# Altium footprint library PcbLib_Internship.PcbLib: 19 footprints (part 1 of 2)
Each footprint in its own frame and in the unit in brackets; x right, y up, seen from the top. Pads: shape width x height; smd on the part's side, far side on the other; paste and mask are expansions set on the pad; w line width, h text height; cw(c..) or ccw(c..) is an arc to the next point about the centre after c.
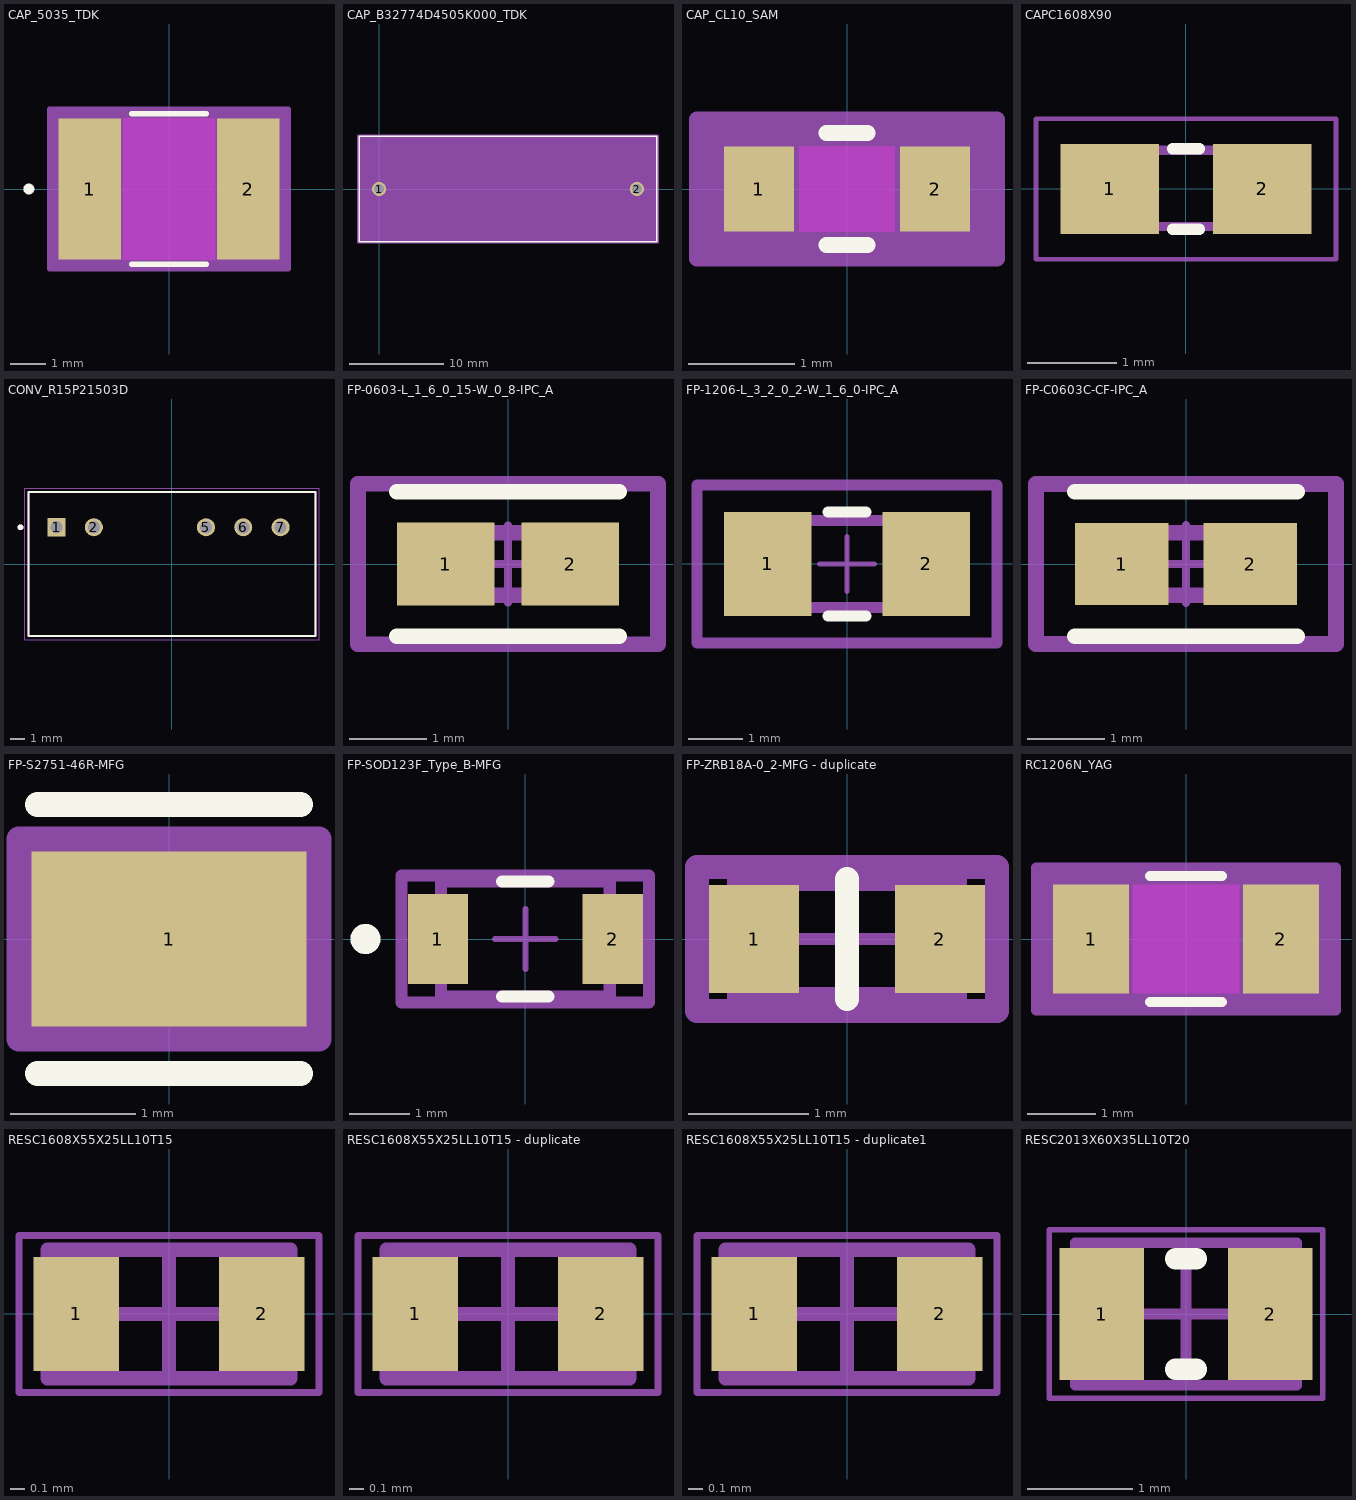
[diagram p0: the footprints below, top view; thin cyan lines are the x and y axes]

## CAP_5035_TDK [mil]
pads (2):
  rect 69x157 smd paste+0 mask+0: 1(-88,0) 2(88,0)
Top Layer keep-out:
  region: -51.5,-76.5 -51.5,76.5 51.5,76.5 51.5,-76.5
Top Overlay:
  circle w6: c-155.5,0 r3
  lines w6: -41.39,-83.5 41.39,-83.5 ; -41.39,83.5 41.39,83.5
Keep-Out Layer:
  region: -51.5,-78.5 -51.5,78.5 51.5,78.5 51.5,-78.5
Mechanical 13:
  circle w0: c-83,0 r3
  lines w1: -108.5,-78.5 -108.5,78.5 ; -108.5,-78.5 -53.5,-78.5 -53.5,78.5 -108.5,78.5 ; -108.5,-78.5 108.5,-78.5 ; -108.5,-78.5 -108.5,78.5 ; -108.5,78.5 108.5,78.5 ; 108.5,-78.5 53.5,-78.5 53.5,78.5 108.5,78.5 ; 108.5,-78.5 108.5,78.5 ; 108.5,-78.5 108.5,78.5
Mechanical 15:
  region: 132.5,-88.5 -132.5,-88.5 -132.5,88.5 132.5,88.5
  lines w6: -132.5,-88.5 -132.5,88.5 132.5,88.5 132.5,-88.5 -132.5,-88.5
3D body "CAP_5035_TDK.step": height 132.01, standoff 0, extent -108.5,-78.5 108.5,78.5

## CAP_B32774D4505K000_TDK [mil]
pads (2):
  round 60 / inner round 60 / far side rect 63x63 hole 43 paste-31.5 mask+0: 1(0,0)
  round 60 / inner round 60 / far side round 63 hole 43 paste-31.5 mask+0: 2(1082.68,0)
Top Overlay:
  lines w6: -83.66,-221.5 1166.34,-221.5 1166.34,221.5 -83.66,221.5 -83.66,-221.5
Mechanical 13:
  lines w1: -78.66,-216.5 1161.34,-216.5 1161.34,216.5 -78.66,216.5 -78.66,-216.5
Mechanical 15:
  region: 1171.34,-226.5 -88.66,-226.5 -88.66,226.5 1171.34,226.5
  lines w6: -88.66,-226.5 -88.66,226.5 1171.34,226.5 1171.34,-226.5 -88.66,-226.5
3D body "CAP_B32774D4505K000_TDK.step": height 827.01, standoff -199.02, extent -78.66,-216.5 1161.34,216.5

## CAP_CL10_SAM [mm]
pads (2):
  rect 0.656x0.8 smd paste+0 mask+0: 1(-0.828,0) 2(0.828,0)
Top Layer keep-out:
  region: -0.449,-0.349 -0.449,0.349 0.449,0.349 0.449,-0.349
Top Overlay:
  lines w0.152: -0.192,-0.527 0.192,-0.527 ; -0.192,0.527 0.192,0.527
Keep-Out Layer:
  region: -0.449,-0.4 -0.449,0.4 0.449,0.4 0.449,-0.4
Mechanical 13:
  lines w0.025: -0.8,-0.4 -0.8,0.4 ; -0.8,-0.4 -0.5,-0.4 -0.5,0.4 -0.8,0.4 ; -0.8,-0.4 0.8,-0.4 ; -0.8,-0.4 -0.8,0.4 ; -0.8,0.4 0.8,0.4 ; 0.8,-0.4 0.5,-0.4 0.5,0.4 0.8,0.4 ; 0.8,-0.4 0.8,0.4 ; 0.8,-0.4 0.8,0.4
Mechanical 15:
  region: 1.41,-0.654 -1.41,-0.654 -1.41,0.654 1.41,0.654
  lines w0.152: -1.41,-0.654 -1.41,0.654 1.41,0.654 1.41,-0.654 -1.41,-0.654
3D body "CAP_CL10_SAM.step": height 0.9, standoff 0, extent -0.8,-0.4 0.8,0.4

## CAPC1608X90 [mm]
pads (2):
  rect 1.1x1 smd: 1(-0.85,0) 2(0.85,0)
Top Overlay:
  lines w0.127: -0.15,-0.45 0.15,-0.45 ; -0.15,0.45 0.15,0.45
Mechanical 13:
  region: 0.83,-0.471 0.331,-0.471 0.331,0.48 0.83,0.48
  region: -0.338,-0.47 -0.839,-0.47 -0.839,0.48 -0.338,0.48
  lines w0.102: -0.356,-0.419 0.356,-0.419 ; -0.356,0.432 0.356,0.432
Mechanical 15:
  lines w0.051: -1.673,-0.783 -1.673,0.783 1.673,0.783 1.673,-0.783 -1.673,-0.783
3D body "CAP_CL10_SAM.step": height 0.9, standoff 0, extent -0.8,-0.4 0.8,0.4

## CONV_R15P21503D [mm]
pads (5):
  rect 1.23x1.23 hole 0.82: 1(-7.85,2.5)
  round 1.23 hole 0.82: 2(-5.31,2.5) 5(2.31,2.5) 6(4.85,2.5) 7(7.39,2.5)
Top Overlay:
  circle w0.2: c-10.3,2.5 r0.1
  lines w0.127: -9.75,-4.9 -9.75,4.9 9.75,4.9 9.75,-4.9 -9.75,-4.9
Mechanical 13:
  circle w0.2: c-10.3,2.5 r0.1
  lines w0.127: -9.75,-4.9 9.75,-4.9 9.75,4.9 -9.75,4.9 -9.75,-4.9
Mechanical 15:
  lines w0.05: -10,-5.15 -10,5.15 10,5.15 10,-5.15 -10,-5.15
3D body "R15P21503D.STEP": height 12.01, standoff -4.59, extent -9.75,-4.9 9.75,4.9

## FP-0603-L_1_6_0_15-W_0_8-IPC_A [mm]
pads (2):
  rect 1.258x1.062 smd paste+0 mask+0: 1(-0.802,0) 2(0.802,0)
Top Overlay:
  lines w0.2: -1.431,-0.931 1.431,-0.931 ; -1.431,0.931 1.431,0.931
Top 3D Body:
  lines w0.2: -0.8,-0.4 0.8,-0.4 0.8,0.4 -0.8,0.4 -0.8,-0.4
Top Courtyard:
  lines w0.2: -1.931,-1.031 1.931,-1.031 1.931,1.031 -1.931,1.031 -1.931,-1.031
Top Assembly:
  lines w0.2: -1.931,-1.031 1.931,-1.031 1.931,1.031 -1.931,1.031 -1.931,-1.031
  text ".Designator" at 0,0.188 h1
Top Component Center:
  lines w0.1: -0.5,0 0.5,0 ; 0,-0.5 0,0.5
3D body "Cap_Taiyo_Yuden_EMK107ABJ475KA-T_eec.STEP": height 0.25, standoff 0, extent -1.931,-1.031 1.931,1.031

## FP-1206-L_3_2_0_2-W_1_6_0-IPC_A [mm]
pads (2):
  rect 1.604x1.906 smd paste+0 mask+0: 1(-1.451,0) 2(1.451,0)
Top Overlay:
  lines w0.2: -0.349,-0.953 0.349,-0.953 ; -0.349,0.953 0.349,0.953
Top 3D Body:
  lines w0.2: -1.6,-0.8 1.6,-0.8 1.6,0.8 -1.6,0.8 -1.6,-0.8
Top Courtyard:
  lines w0.2: -2.753,-1.453 2.753,-1.453 2.753,1.453 -2.753,1.453 -2.753,-1.453
Top Assembly:
  lines w0.2: -2.753,-1.453 2.753,-1.453 2.753,1.453 -2.753,1.453 -2.753,-1.453
  text ".Designator" at 0,0.188 h1
Top Component Center:
  lines w0.1: -0.5,0 0.5,0 ; 0,-0.5 0,0.5
3D body "Cap_Taiyo_Yuden_JMK316ABJ226KLHT_eec.STEP": height 0.25, standoff 0, extent -2.753,-1.453 2.753,1.453

## FP-C0603C-CF-IPC_A [mil]
pads (2):
  rect 47.5x41.66 smd paste+0 mask+0: 1(-32.51,0) 2(32.51,0)
Top Overlay:
  lines w7.87: -56.26,-36.58 56.26,-36.58 ; -56.26,36.58 56.26,36.58
Top 3D Body:
  lines w7.87: -31.5,-15.75 31.5,-15.75 31.5,15.75 -31.5,15.75 -31.5,-15.75
Top Courtyard:
  lines w7.87: -75.95,-40.52 75.95,-40.52 75.95,40.52 -75.95,40.52 -75.95,-40.52
Top Assembly:
  lines w7.87: -75.95,-40.52 75.95,-40.52 75.95,40.52 -75.95,40.52 -75.95,-40.52
  text ".Designator" at 0,7.39 h39.37
Top Component Center:
  lines w3.94: -19.68,0 19.68,0 ; 0,-19.68 0,19.68
3D body "Cap_KEMET_C0603C272M5JACTU_eec.STEP": height 10, standoff 0, extent -75.95,-40.52 75.95,40.52

## FP-S2751-46R-MFG [mm]
pads (1):
  rect 2.2x1.4 smd paste+0 mask+0: 1(0,0)
Top Overlay:
  lines w0.2: -1.05,-1.075 1.05,-1.075 ; -1.05,1.075 1.05,1.075
Top 3D Body:
  lines w0.2: -1.05,-0.65 -1.05,0.65 1.05,0.65 1.05,-0.65 -1.05,-0.65
Top Courtyard:
  lines w0.2: -1.2,-0.8 -1.2,0.8 1.2,0.8 1.2,-0.8 -1.2,-0.8
Top Assembly:
  lines w0.2: -1.2,-0.8 -1.2,0.8 1.2,0.8 1.2,-0.8 -1.2,-0.8
  text ".Designator" at 0,-0.001 h1
Top Component Center:
  lines w0.1: -0.5,0 0.5,0 ; 0,-0.5 0,0.5
3D body "Conn_Harwin_S2751-46R_eec.STEP": height 0.25, standoff 0, extent -1.2,-0.8 1.2,0.8

## FP-SOD123F_Type_B-MFG [mm]
pads (2):
  rect 1x1.5 smd paste+0 mask+0: 1(-1.45,0) 2(1.45,0)
Top Overlay:
  circle w0.25: c-2.65,0 r0.125
  lines w0.2: -0.385,-0.95 0.385,-0.95 ; -0.385,0.95 0.385,0.95
Top 3D Body:
  lines w0.2: -1.4,-0.95 1.4,-0.95 1.4,0.95 -1.4,0.95 -1.4,-0.95
Top Courtyard:
  lines w0.2: -2.05,-1.05 2.05,-1.05 2.05,1.05 -2.05,1.05 -2.05,-1.05
Top Assembly:
  lines w0.2: -2.05,-1.05 2.05,-1.05 2.05,1.05 -2.05,1.05 -2.05,-1.05
  text ".Designator" at 0,-0.001 h1
Top Component Center:
  lines w0.1: -0.5,0 0.5,0 ; 0,-0.5 0,0.5
3D body "Diode_Diodes_Inc_1N5819HW1-7-F_eec.STEP": height 0.25, standoff 0, extent -2.05,-1.05 2.05,1.05

## FP-ZRB18A-0_2-MFG - duplicate [mm]
pads (2):
  rect 0.75x0.9 smd paste+0 mask+0: 1(-0.775,0) 2(0.775,0)
Top Overlay:
  lines w0.2: 0,-0.5 0,0.5
Top 3D Body:
  lines w0.2: -0.9,-0.5 0.9,-0.5 0.9,0.5 -0.9,0.5 -0.9,-0.5
Top Courtyard:
  lines w0.2: -1.25,-0.6 1.25,-0.6 1.25,0.6 -1.25,0.6 -1.25,-0.6
Top Assembly:
  lines w0.2: -1.25,-0.6 1.25,-0.6 1.25,0.6 -1.25,0.6 -1.25,-0.6
  text ".Designator" at 0,-0.001 h1
Top Component Center:
  lines w0.1: -0.5,0 0.5,0 ; 0,-0.5 0,0.5
3D body "Cap_Murata_Electronics_ZRB18AR61A226ME01L_eec.STEP": height 0.25, standoff 0, extent -1.25,-0.6 1.25,0.6

## RC1206N_YAG [mil]
pads (2):
  rect 44x63 smd paste+0 mask+0: 1(-55,0) 2(55,0)
Top Layer keep-out:
  region: -31,-29.5 -31,29.5 31,29.5 31,-29.5
Top Overlay:
  lines w6: -20.89,-36.5 20.89,-36.5 ; -20.89,36.5 20.89,36.5
Keep-Out Layer:
  region: -31,-31.5 -31,31.5 31,31.5 31,-31.5
Mechanical 13:
  lines w1: -63,-31.5 -63,31.5 ; -63,-31.5 63,-31.5 ; -63,-31.5 -33,-31.5 -33,31.5 -63,31.5 ; -63,-31.5 -63,31.5 ; -63,31.5 63,31.5 ; 63,-31.5 63,31.5 ; 63,-31.5 63,31.5 ; 63,-31.5 33,-31.5 33,31.5 63,31.5
Mechanical 15:
  region: 87,-41.5 -87,-41.5 -87,41.5 87,41.5
  lines w6: -87,-41.5 87,-41.5 87,41.5 -87,41.5 -87,-41.5
3D body "RC1206N_YAG.step": height 27.99, standoff 0, extent -62.99,-31.5 62.99,31.5

## RESC1608X55X25LL10T15 [mm] "Chip Resistor, 2-Leads, Body 1.70x0.90mm, IPC High Density"
height 0.55
pads (2):
  rect 0.6x0.8 smd: 1(-0.65,0) 2(0.65,0)
Mechanical 13:
  lines w0.1: -0.85,-0.45 -0.85,0.45 0.85,0.45 0.85,-0.45 -0.85,-0.45
Mechanical 15:
  lines w0.05: -1.05,-0.55 -1.05,0.55 1.05,0.55 1.05,-0.55 -1.05,-0.55
  lines w0.1: -0.45,0 0.45,0 ; 0,-0.45 0,0.45
3D body: height 0.55, standoff 0, extent -0.6,-0.45 0.6,0.45
3D body: height 0.55, standoff 0, extent -0.85,-0.45 -0.6,0.45
3D body: height 0.55, standoff 0, extent 0.6,-0.45 0.85,0.45

## RESC1608X55X25LL10T15 - duplicate [mm] "Chip Resistor, 2-Leads, Body 1.70x0.90mm, IPC High Density"
height 0.55
pads (2):
  rect 0.6x0.8 smd: 1(-0.65,0) 2(0.65,0)
Mechanical 13:
  lines w0.1: -0.85,-0.45 -0.85,0.45 0.85,0.45 0.85,-0.45 -0.85,-0.45
Mechanical 15:
  lines w0.05: -1.05,-0.55 -1.05,0.55 1.05,0.55 1.05,-0.55 -1.05,-0.55
  lines w0.1: -0.45,0 0.45,0 ; 0,-0.45 0,0.45
3D body: height 0.55, standoff 0, extent -0.6,-0.45 0.6,0.45
3D body: height 0.55, standoff 0, extent -0.85,-0.45 -0.6,0.45
3D body: height 0.55, standoff 0, extent 0.6,-0.45 0.85,0.45

## RESC1608X55X25LL10T15 - duplicate1 [mm] "Chip Resistor, 2-Leads, Body 1.70x0.90mm, IPC High Density"
height 0.55
pads (2):
  rect 0.6x0.8 smd: 1(-0.65,0) 2(0.65,0)
Mechanical 13:
  lines w0.1: -0.85,-0.45 -0.85,0.45 0.85,0.45 0.85,-0.45 -0.85,-0.45
Mechanical 15:
  lines w0.05: -1.05,-0.55 -1.05,0.55 1.05,0.55 1.05,-0.55 -1.05,-0.55
  lines w0.1: -0.45,0 0.45,0 ; 0,-0.45 0,0.45
3D body: height 0.55, standoff 0, extent -0.6,-0.45 0.6,0.45
3D body: height 0.55, standoff 0, extent -0.85,-0.45 -0.6,0.45
3D body: height 0.55, standoff 0, extent 0.6,-0.45 0.85,0.45

## RESC2013X60X35LL10T20 [mm] "Chip Resistor, 2-Leads, Body 2.00x1.25mm, IPC High Density"
height 0.6
pads (2):
  rect 0.8x1.25 smd: 1(-0.8,0) 2(0.8,0)
Top Overlay:
  lines w0.2: -0.1,-0.525 0.1,-0.525 ; -0.1,0.525 0.1,0.525
Mechanical 13:
  lines w0.1: -1.05,-0.675 1.05,-0.675 1.05,0.675 -1.05,0.675 -1.05,-0.675
Mechanical 15:
  lines w0.05: -1.3,-0.8 1.3,-0.8 1.3,0.8 -1.3,0.8 -1.3,-0.8
  lines w0.1: -0.5,0 0.5,0 ; 0,-0.5 0,0.5
3D body: height 0.6, standoff 0, extent 0.7,-0.675 1.05,0.675
3D body: height 0.6, standoff 0, extent -1.05,-0.675 -0.7,0.675
3D body: height 0.6, standoff 0, extent -0.7,-0.675 0.7,0.675